# Altium schematic symbol library Inductor_SMD_Bourns_1.Schlib: 1 symbol
Pins are listed as number, name and electrical type; pins without a type are passive.

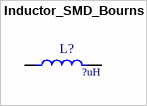
[diagram p0: symbol Inductor_SMD_Bourns]

## Inductor_SMD_Bourns
designator L?  Inductance: ?uH
footprint Inductor_SMD
pins: 1, 2